# Altium schematic symbol library 610 3xx 218 21.SchLib: 12 symbols
Pins are listed as number, name and electrical type; pins without a type are passive.

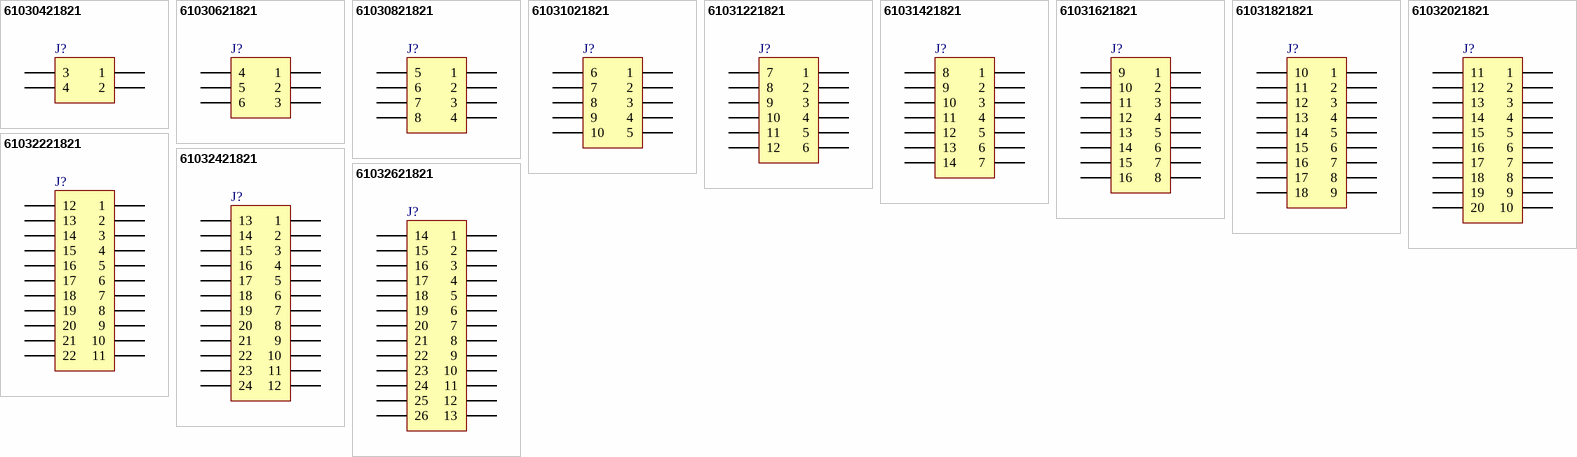
[diagram p0: symbols 61030421821 to 61032621821]

## 61030421821
designator J?, comment 04p  (value not drawn)
WR-PHD 2.54 mm Dual SMT Socket Header (Reel), 04p; PartNumber: 61030421821; PublishedDate: July 2016; Publisher: Wurth Elektronik; ComponentLink1Description: Manufacturer; ComponentLink1URL: http://www.we-online.de; ComponentLink2Description: Datasheet; ComponentLink2URL: http://katalog.we-online.de/em/datasheet/6103xx21821.pdf; PinNumber: 04p
footprint 61030421821
pins: 1, 2, 3, 4

## 61030621821
designator J?, comment 06p  (value not drawn)
WR-PHD 2.54 mm Dual SMT Socket Header (Reel), 06p; PartNumber: 61030621821; PublishedDate: July 2016; Publisher: Wurth Elektronik; ComponentLink1Description: Manufacturer; ComponentLink1URL: http://www.we-online.de; ComponentLink2Description: Datasheet; ComponentLink2URL: http://katalog.we-online.de/em/datasheet/6103xx21821.pdf; PinNumber: 06p
footprint 61030621821
pins: 1, 2, 3, 4, 5, 6

## 61030821821
designator J?, comment 08p  (value not drawn)
WR-PHD 2.54 mm Dual SMT Socket Header (Reel), 08p; PartNumber: 61030821821; PublishedDate: July 2016; Publisher: Wurth Elektronik; ComponentLink1Description: Manufacturer; ComponentLink1URL: http://www.we-online.de; ComponentLink2Description: Datasheet; ComponentLink2URL: http://katalog.we-online.de/em/datasheet/6103xx21821.pdf; PinNumber: 08p
footprint 61030821821
pins: 1, 2, 3, 4, 5, 6, 7, 8

## 61031021821
designator J?, comment 10p  (value not drawn)
WR-PHD 2.54 mm Dual SMT Socket Header (Reel), 10p; PartNumber: 61031021821; PublishedDate: July 2016; Publisher: Wurth Elektronik; ComponentLink1Description: Manufacturer; ComponentLink1URL: http://www.we-online.de; ComponentLink2Description: Datasheet; ComponentLink2URL: http://katalog.we-online.de/em/datasheet/6103xx21821.pdf; PinNumber: 10p
footprint 61031021821
pins: 1, 2, 3, 4, 5, 6, 7, 8, 9, 10

## 61031221821
designator J?, comment 12p  (value not drawn)
WR-PHD 2.54 mm Dual SMT Socket Header (Reel), 12p; PartNumber: 61031221821; PublishedDate: July 2016; Publisher: Wurth Elektronik; ComponentLink1Description: Manufacturer; ComponentLink1URL: http://www.we-online.de; ComponentLink2Description: Datasheet; ComponentLink2URL: http://katalog.we-online.de/em/datasheet/6103xx21821.pdf; PinNumber: 12p
footprint 61031221821
pins: 1, 2, 3, 4, 5, 6, 7, 8, 9, 10, 11, 12

## 61031421821
designator J?, comment 14p  (value not drawn)
WR-PHD 2.54 mm Dual SMT Socket Header (Reel), 14p; PartNumber: 61031421821; PublishedDate: July 2016; Publisher: Wurth Elektronik; ComponentLink1Description: Manufacturer; ComponentLink1URL: http://www.we-online.de; ComponentLink2Description: Datasheet; ComponentLink2URL: http://katalog.we-online.de/em/datasheet/6103xx21821.pdf; PinNumber: 14p
footprint 61031421821
pins: 1, 2, 3, 4, 5, 6, 7, 8, 9, 10, 11, 12, 13, 14

## 61031621821
designator J?, comment 16p  (value not drawn)
WR-PHD 2.54 mm Dual SMT Socket Header (Reel), 16p; PartNumber: 61031621821; PublishedDate: July 2016; Publisher: Wurth Elektronik; ComponentLink1Description: Manufacturer; ComponentLink1URL: http://www.we-online.de; ComponentLink2Description: Datasheet; ComponentLink2URL: http://katalog.we-online.de/em/datasheet/6103xx21821.pdf; PinNumber: 16p
footprint 61031621821
pins: 1, 2, 3, 4, 5, 6, 7, 8, 9, 10, 11, 12, 13, 14, 15, 16

## 61031821821
designator J?, comment 18p  (value not drawn)
WR-PHD 2.54 mm Dual SMT Socket Header (Reel), 18p; PartNumber: 61031821821; PublishedDate: July 2016; Publisher: Wurth Elektronik; ComponentLink1Description: Manufacturer; ComponentLink1URL: http://www.we-online.de; ComponentLink2Description: Datasheet; ComponentLink2URL: http://katalog.we-online.de/em/datasheet/6103xx21821.pdf; PinNumber: 18p
footprint 61031821821
pins: 1, 2, 3, 4, 5, 6, 7, 8, 9, 10, 11, 12, 13, 14, 15, 16, 17, 18

## 61032021821
designator J?, comment 20p  (value not drawn)
WR-PHD 2.54 mm Dual SMT Socket Header (Reel), 20p; PartNumber: 61032021821; PublishedDate: July 2016; Publisher: Wurth Elektronik; ComponentLink1Description: Manufacturer; ComponentLink1URL: http://www.we-online.de; ComponentLink2Description: Datasheet; ComponentLink2URL: http://katalog.we-online.de/em/datasheet/6103xx21821.pdf; PinNumber: 20p
footprint 61032021821
pins: 1, 2, 3, 4, 5, 6, 7, 8, 9, 10, 11, 12, 13, 14, 15, 16, 17, 18, 19, 20

## 61032221821
designator J?, comment 22p  (value not drawn)
WR-PHD 2.54 mm Dual SMT Socket Header (Reel), 22p; PartNumber: 61032221821; PublishedDate: July 2016; Publisher: Wurth Elektronik; ComponentLink1Description: Manufacturer; ComponentLink1URL: http://www.we-online.de; ComponentLink2Description: Datasheet; ComponentLink2URL: http://katalog.we-online.de/em/datasheet/6103xx21821.pdf; PinNumber: 22p
footprint 61032221821
pins: 1, 2, 3, 4, 5, 6, 7, 8, 9, 10, 11, 12, 13, 14, 15, 16, 17, 18, 19, 20, 21, 22

## 61032421821
designator J?, comment 24p  (value not drawn)
WR-PHD 2.54 mm Dual SMT Socket Header (Reel), 24p; PartNumber: 61032421821; PublishedDate: July 2016; Publisher: Wurth Elektronik; ComponentLink1Description: Manufacturer; ComponentLink1URL: http://www.we-online.de; ComponentLink2Description: Datasheet; ComponentLink2URL: http://katalog.we-online.de/em/datasheet/6103xx21821.pdf; PinNumber: 24p
footprint 61032421821
pins: 1, 2, 3, 4, 5, 6, 7, 8, 9, 10, 11, 12, 13, 14, 15, 16, 17, 18, 19, 20, 21, 22, 23, 24

## 61032621821
designator J?, comment 26p  (value not drawn)
WR-PHD 2.54 mm Dual SMT Socket Header (Reel), 26p; PartNumber: 61032621821; PublishedDate: July 2016; Publisher: Wurth Elektronik; ComponentLink1Description: Manufacturer; ComponentLink1URL: http://www.we-online.de; ComponentLink2Description: Datasheet; ComponentLink2URL: http://katalog.we-online.de/em/datasheet/6103xx21821.pdf; PinNumber: 26p
footprint 61032621821
pins: 1, 2, 3, 4, 5, 6, 7, 8, 9, 10, 11, 12, 13, 14, 15, 16, 17, 18, 19, 20, 21, 22, 23, 24, 25, 26